# Altium schematic symbol library ch32v003f4p6.SCHLIB: 13 symbols
Pins are listed as number, name and electrical type; pins without a type are passive.

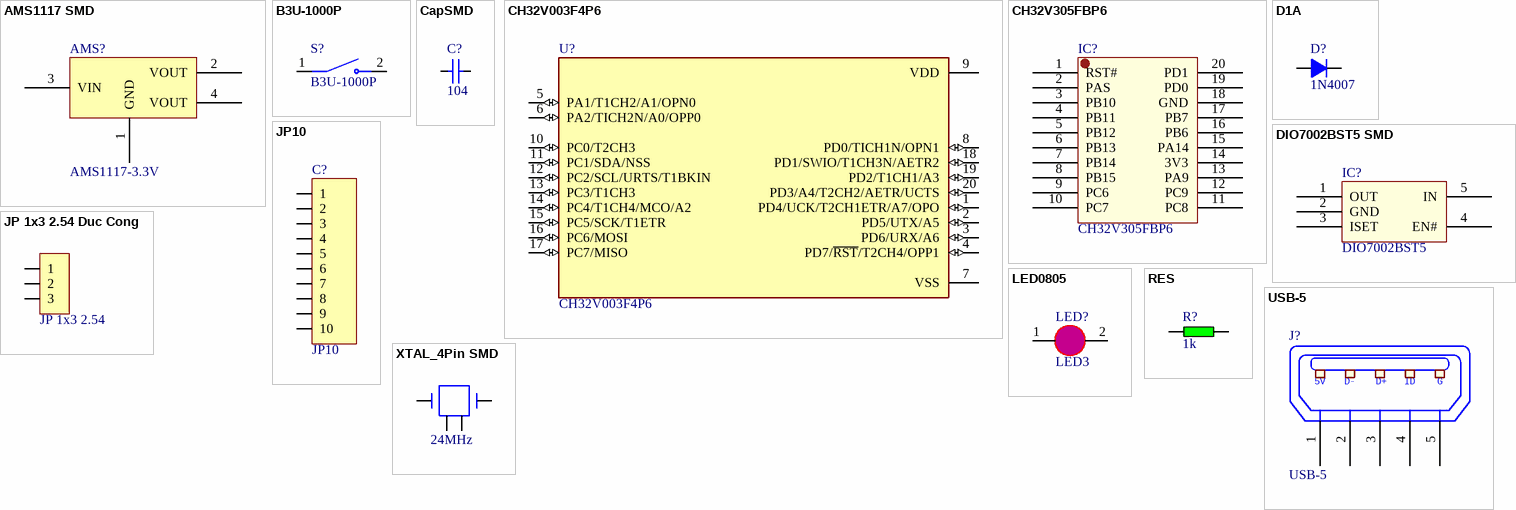
[diagram p0: symbols AMS1117 SMD to XTAL_4Pin SMD]

## AMS1117 SMD
designator AMS?, comment AMS1117-3.3V
Dán; Value: AMS1117-3.3V SOT223; Don_Vi: Con; Ma_Hang: MH000596; Ghi_Chu: *; Kieu_Chan: *; Chung_Loai: Dán
footprint SOT223
pins: 1 GND, 2 VOUT, 3 VIN, 4 VOUT

## B3U-1000P
designator S?
Switch Tactile N.O. SPST Round Button Gull Wing 0.05A 12VDC 1.5N SMD Embossed T/R; Price: None; MP: B3U-1000P; Availability: Unavailable; Value: *; Package: None
footprint SW_B3U-1000P
pins: 1, 2

## CapSMD
designator C?, comment 104
Capacitor; Value: 33p; Published: 8-Jun-2000; LatestRevisionDate: 17-Jul-2002; LatestRevisionNote: Re-released for DXP Platform.; PackageReference: RAD-0.3; Publisher: Altium Limited
footprint CAP_0402
footprint CAP_0603
footprint CAP_0805
footprint CAP_1206
footprint CAP_3216
pins: 1, 2

## CH32V003F4P6
designator U?
Industrial-grade general-purpose microcontroller; MF: WCH; SnapEDA_Link: https://www.snapeda.com/parts/CH32V003F4P6/WCH/view-part/?ref=snap; Package: Package; Value: *; MP: CH32V003F4P6; Check_prices: https://www.snapeda.com/parts/CH32V003F4P6/WCH/view-part/?ref=eda
footprint SOP65P640X121-20N
pins: 1 PD4/UCK/T2CH1ETR/A7/OPO (io), 2 PD5/UTX/A5 (io), 3 PD6/URX/A6 (io), 4 PD7/~{RST}/T2CH4/OPP1 (io), 5 PA1/T1CH2/A1/OPN0 (io), 6 PA2/TICH2N/A0/OPP0 (io), 7 VSS (power), 8 PD0/TICH1N/OPN1 (io), 9 VDD (power), 10 PC0/T2CH3 (io), 11 PC1/SDA/NSS (io), 12 PC2/SCL/URTS/T1BKIN (io), 13 PC3/T1CH3 (io), 14 PC4/T1CH4/MCO/A2 (io), 15 PC5/SCK/T1ETR (io), 16 PC6/MOSI (io), 17 PC7/MISO (io), 18 PD1/SWIO/T1CH3N/AETR2 (io), 19 PD2/T1CH1/A3 (io), 20 PD3/A4/T2CH2/AETR/UCTS (io)

## CH32V305FBP6
designator IC?
footprint TSSOP-20
pins: 1 RST#, 2 PAS, 3 PB10, 4 PB11, 5 PB12, 6 PB13, 7 PB14, 8 PB15, 9 PC6, 10 PC7, 11 PC8, 12 PC9, 13 PA9, 14 3V3, 15 PA14, 16 PB6, 17 PB7, 18 GND, 19 PD0, 20 PD1

## D1A
designator D?, comment 1N4007
Diode 1A; Value: 1N4007
footprint D1A (Diode 1A, W 100mil, L 350mil)
footprint D2A (Diode 2A, W 150mil, L 450mil)
footprint DIODE SMA (SMA)
footprint DIO-214AC(SMA) (DO-214AC Diode Smallest Size)
pins: 1 A, 2 K

## DIO7002BST5 SMD
designator IC?, comment DIO7002BST5
footprint SOT23-5 (SOT23, 5-Leads, Body 3.0x3.0mm (max), Pitch 0.95mm, IPC Medium Density)
simulation model Model Name (Model Description)
pins: 1 OUT, 2 GND, 3 ISET, 4 EN#, 5 IN

## JP10
designator C?
WR-PHD 2.54 mm Angled Socket Header; Manufacturer: W¨¹rth Elektronik eiSos GmbH; partNo: 613010143121; ComponentLink1 Description: Manufacturer; ComponentLink2 Description: Datasheet; NoPins: 10; Created Date: 29 March 2013; ComponentLink1URL: http://www.we-online.com; ComponentLink2URL: http://katalog.we-online.de/em/datasheet/6130xx143121.pdf; Created by: Karrer Zheng
footprint JP10-C1T (10 row, straight, gold plating)
footprint JP10-C1C (10p 1 row Right angle)
footprint JP10-D1T (10 pins, 1 row, straight, gold plating)
footprint JP10-D1C (10 pins, 1 row, right angled, gold plating)
pins: 1, 2, 3, 4, 5, 6, 7, 8, 9, 10

## JP 1x3 2.54 Duc Cong
designator JP?, comment JP 1x3 2.54
Cắm; Ten_Linh_Kien: Jump Đơn Đực 2.54MM 1x40P Cong Đứng; Don_Vi: Con; Ma_Hang: MH000904; Ghi_Chu: *; Kieu_Chan: *; Chung_Loai: Cắm
footprint JP 1x3 DC
pins: 1, 2, 3

## LED0805
designator LED?, comment LED3
LED SMD 0805
footprint LED0805 (Chip Resistor; Body 2.0 x 1.3 mm (LxW typ))
footprint CAP_0402
pins: 1 A, 2 K

## RES
designator R?, comment 1k
Resistor 1/4W; Value: R1/4W - 1K
footprint SM-1206 (Compoment SMD 120x60mil)
footprint R1/8W (R 1/8W, 2 pin, 300mil)
footprint R1/4W (R 1/4W, 2 Pin, 350mil)
footprint R1/4WD (R 1/4W, 2 Pin, 150mil)
footprint R-0805 (Compoment SMD 80x50mil)
footprint RES-SMD-0603
pins: 1, 2

## USB-5
designator J?
Manufacturer: FCI; Manufacturer Part Number: 10118193-0001LF; Connector Type: USB - micro B; Number of Contacts: 5; Gender: Receptacle; Specifications: USB 2.0; .Creator: MM; .Checked PCB: RF; Supplier 1: Digi-Key; RoHS: RoHS Compliant; Category: Connectors, Interconnects; Stock 1: 28642; Pricing 1: 1=0.46, 10=0.433, 25=0.3712, 50=0.3156, 100=0.3032, 250=0.27224, 500=0.25988 (USD); Packaging: Cut Tape (CT); Mounting Type: Surface Mount, Right Angle, Horizontal; Features: Shielded, Solder Retention; Ingress Protection: -; ComponentLink1URL: http://portal.fciconnect.com/Comergent//fci/drawing/10118193.pdf; ComponentLink1Description: http://portal.fciconnect.com/Comergent//fci/drawing/10118193.pdf; Supplier Part Number 1: 609-4616-1-ND; .Checked SCH: MM
footprint USB-M1
footprint USB-M2
footprint USB-M3
footprint USB-M4
footprint USB-M5
footprint USB-M6 (MOLEX 51387-0571)
footprint USB-M7
pins: 1 P1, 2 P2, 3 P3, 4 P4, 5 P5
text: 5V; D-; D+; ID; G

## XTAL_4Pin SMD
designator Y?, comment 24MHz
Crystal Oscillator; Published: 8-Jun-2000; LatestRevisionDate: 17-Jul-2002; LatestRevisionNote: Re-released for DXP Platform.; PackageReference: R38; Publisher: Altium Limited
footprint Crystal 4 pin SMD 50x32 (Quartz Crystal, SM; Body 6.0 x 3.5 mm (LxW))
footprint Crystal 4 pin SMD 32x25 (Quartz Crystal, SM; Body 6.0 x 3.5 mm (LxW))
footprint Crystal 4 pin SMD 25x20 (Quartz Crystal, SM; Body 2.5 x 2.0 mm (LxW))
pins: 1 OSC1, 2 GND, 3 OSC2, 4 GND